# Altium footprint library RPU0010A.PcbLib: 1 footprints
Each footprint in its own frame and in the unit in brackets; x right, y up, seen from the top. Pads: shape width x height; smd on the part's side, far side on the other; paste and mask are expansions set on the pad; w line width, h text height; cw(c..) or ccw(c..) is an arc to the next point about the centre after c.
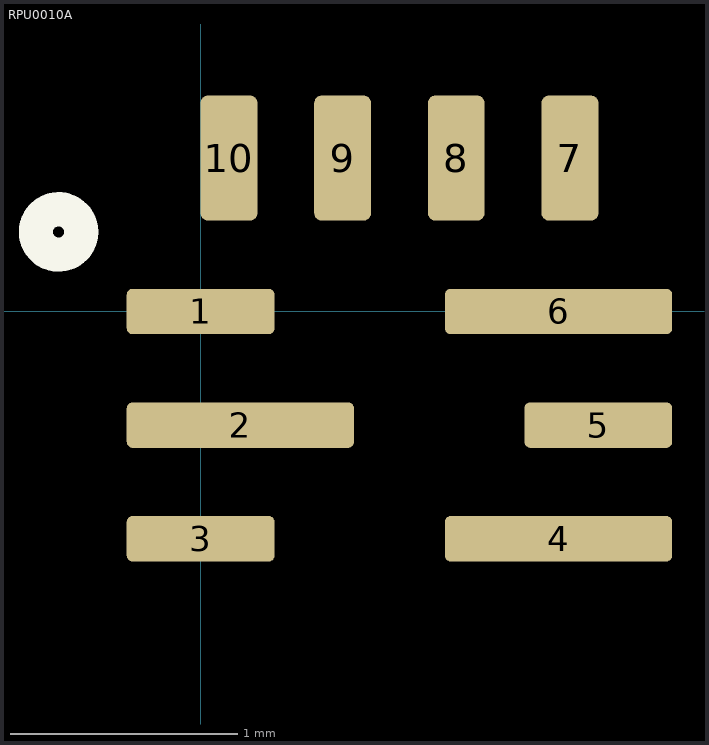
[diagram p0: the footprint, top view; thin cyan lines are the x and y axes]

## RPU0010A [mm] "Texas Instrumnets VQFN-HR-10 Package"
height 1
pads (10):
  rrect25% 0.65x0.2 smd: 1(0,0) 3(0,-1) 5(1.75,-0.5)
  rrect25% 1x0.2 smd: 2(0.175,-0.5) 4(1.575,-1) 6(1.575,0)
  rrect25% 0.25x0.55 smd: 7(1.625,0.675) 8(1.125,0.675) 9(0.625,0.675) 10(0.125,0.675)
Top Overlay:
  circle w0.15: c-0.625,0.35 r0.1
3D body "RPU0010A.stp": height 1, standoff 0, extent -0.125,-1.25 1.875,0.75